# EAGLE library part XR-T3588 (library exar)
V.35/BELL 306 DRIVER/RECEIVER
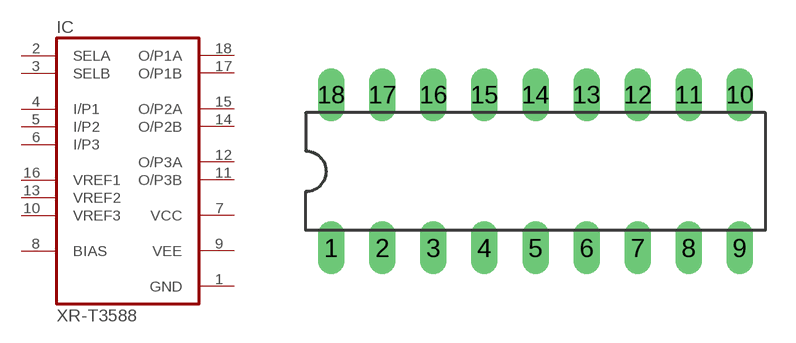
[diagram p29: symbol with the pads of DIL18; footprint DIL18]

Designator prefix IC

## XR-T3588  [DIL18]
1  GND  pwr
2  SELA  in
3  SELB  in
4  I/P1  in
5  I/P2  in
6  I/P3  in
7  VCC  pwr
8  BIAS  in
9  VEE  pwr
10  VREF3  in
11  O/P3B  out
12  O/P3A  out
13  VREF2  in
14  O/P2B  out
15  O/P2A  out
16  VREF1  in
17  O/P1B  out
18  O/P1A  out

## Footprint DIL18 (pad centres in mm)
Dual In Line Package
drill 0.813 long: 1 -10.16,-3.81; 2 -7.62,-3.81; 3 -5.08,-3.81; 4 -2.54,-3.81; 5 0,-3.81; 6 2.54,-3.81; 7 5.08,-3.81; 8 7.62,-3.81; 9 10.16,-3.81; 10 10.16,3.81; 11 7.62,3.81; 12 5.08,3.81; 13 2.54,3.81; 14 0,3.81; 15 -2.54,3.81; 16 -5.08,3.81; 17 -7.62,3.81; 18 -10.16,3.81